# Altium schematic symbol library MCP6291T-E_OT.SchLib: 1 symbol
Pins are listed as number, name and electrical type; pins without a type are passive.

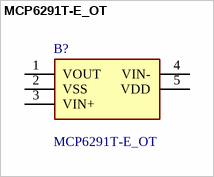
[diagram p0: symbol MCP6291T-E_OT]

## MCP6291T-E_OT
designator B?
Single 10MHz OpAmp,MCP6291T-E/OT; Manufacturer_Name: Microchip; Geometry.Height: 1.45mm; Farnell Part Number: *; Farnell Price/Stock: *; Manufacturer_Part_Number: MCP6291T-E/OT; Datasheet Link: https://datasheet.datasheetarchive.com/originals/distributors/SFDatasheet-4/sf-00090098.pdf
footprint SOT95P280X145-5N
pins: 1 VOUT, 2 VSS, 3 VIN+, 4 VIN-, 5 VDD